# EAGLE library part SLOT2 (library DEEP_MainBoard)
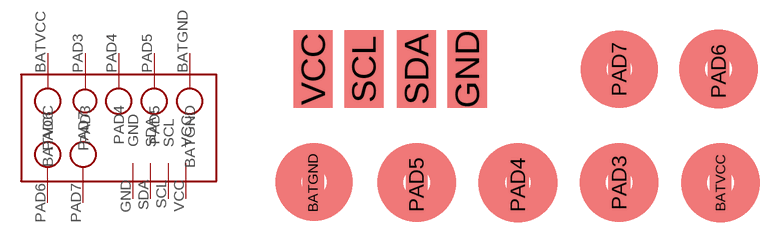
[diagram p4: symbol with the pads of MAINBOARD_SLOT; footprint MAINBOARD_SLOT]

Designator prefix -

## SLOT2  [MAINBOARD_SLOT]
BATGND  BATGND
BATVCC  BATVCC
GND  GND
PAD3  PAD3
PAD4  PAD4
PAD5  PAD5
PAD6  PAD6
PAD7  PAD7
SCL  SCL
SDA  SDA
VCC  VCC

## Footprint MAINBOARD_SLOT (pad centres in mm)
smd 1.067 x 2.184: BATGND 2.9,2.1; BATVCC 23,2.1; PAD3 18,2.1; PAD4 13,2; PAD5 8,2; PAD6 22.9,7.6; PAD7 18,7.7
smd 1.93 x 3.81: GND 10.5,7.7; SCL 5.4,7.7; SDA 8,7.7; VCC 2.9,7.7